# EAGLE library part TPS61240 (library CH_TI)
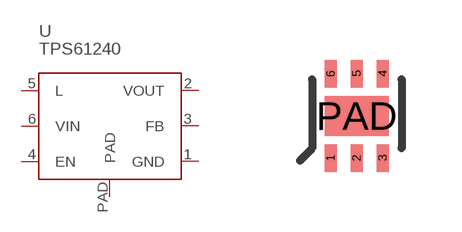
[diagram p5: symbol with the pads of QFN_6_PAD; footprint QFN_6_PAD]

Designator prefix U

## TPS61240-QFN  [QFN_6_PAD]
1  GND
2  VOUT
3  FB
4  EN
5  L
6  VIN
PAD  PAD

## Footprint QFN_6_PAD (pad centres in mm)
TI QFN-6 0.65 pitch with PowerPad. PowerPad Cream Default
smd 0.3 x 0.69: 1 -0.65,-1.056; 2 0,-1.056; 3 0.65,-1.056; 4 0.65,1.056; 5 0,1.056; 6 -0.65,1.056
smd 1.6 x 1: PAD 0,0